# EAGLE library part MAX14595ETA+ (library MAX14595ETA+)
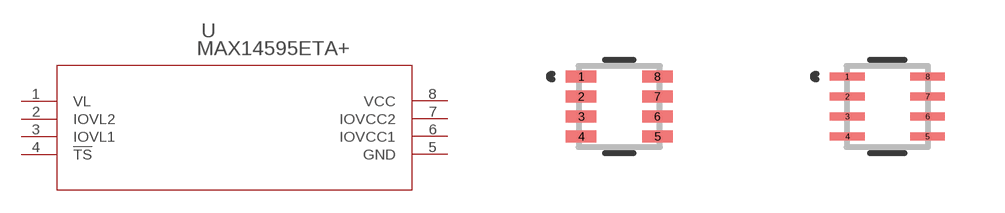
[diagram p0: symbol with the pads of 21-0487A; footprints 21-0487A, 21-0487A-M]

Designator prefix U

## MAX14595ETA+ (BUILT_BY: EMA_UL_Team; MANUFACTURER_PART_NUMBER: MAX14595ETA+; VENDOR: Maxim Integrated Products)  [21-0487A]
1  VL  pwr
2  IOVL2  pas
3  IOVL1  pas
4  !TS  pas
5  GND  pwr
6  IOVCC1  pas
7  IOVCC2  pas
8  VCC  pwr

## MAX14595ETA+21-0487A-M (BUILT_BY: EMA_UL_Team; MANUFACTURER_PART_NUMBER: MAX14595ETA+; VENDOR: Maxim Integrated Products)  [21-0487A-M]
Pads as for 21-0487A

## MAX14595ETA+21-0487A-L (BUILT_BY: EMA_UL_Team; MANUFACTURER_PART_NUMBER: MAX14595ETA+; VENDOR: Maxim Integrated Products)  [21-0487A-L]
Pads as for 21-0487A

## Footprint 21-0487A (pad centres in mm)
smd 0.762 x 0.305: 1 -0.953,0.75; 2 -0.953,0.25; 3 -0.953,-0.25; 4 -0.953,-0.75; 5 0.953,-0.75; 6 0.953,-0.25; 7 0.953,0.25; 8 0.953,0.75

## Footprint 21-0487A-M (pad centres in mm)
smd 0.864 x 0.203: 1 -1.003,0.75; 2 -1.003,0.25; 3 -1.003,-0.25; 4 -1.003,-0.75; 5 1.003,-0.75; 6 1.003,-0.25; 7 1.003,0.25; 8 1.003,0.75

## Footprint 21-0487A-L (pad centres in mm)
smd 0.66 x 0.203: 1 -0.902,0.75; 2 -0.902,0.25; 3 -0.902,-0.25; 4 -0.902,-0.75; 5 0.902,-0.75; 6 0.902,-0.25; 7 0.902,0.25; 8 0.902,0.75